# EAGLE library part 535512-20 (library con-tyco-modu)
RECEPTACAL
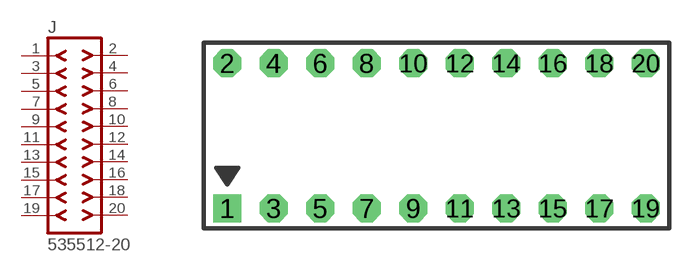
[diagram p25: symbol with the pads of 535512-20; footprint 535512-20]

Designator prefix J

## 535512-20  [535512-20]
1  1  pas
2  2  pas
3  3  pas
4  4  pas
5  5  pas
6  6  pas
7  7  pas
8  8  pas
9  9  pas
10  10  pas
11  11  pas
12  12  pas
13  13  pas
14  14  pas
15  15  pas
16  16  pas
17  17  pas
18  18  pas
19  19  pas
20  20  pas

## Footprint 535512-20 (pad centres in mm)
AMPMODU - 535512 Series
drill 1.016 square: 1 -11.43,0
drill 1.016 octagon: 2 -11.43,7.938; 3 -8.89,0; 4 -8.89,7.938; 5 -6.35,0; 6 -6.35,7.938; 7 -3.81,0; 8 -3.81,7.938; 9 -1.27,0; 10 -1.27,7.938; 11 1.27,0; 12 1.27,7.938; 13 3.81,0; 14 3.81,7.938; 15 6.35,0; 16 6.35,7.938; 17 8.89,0; 18 8.89,7.938; 19 11.43,0; 20 11.43,7.938